# Altium footprint library AMP Footprints.PcbLib: 903 footprints (part 16 of 58)
Each footprint in its own frame and in the unit in brackets; x right, y up, seen from the top. Pads: shape width x height; smd on the part's side, far side on the other; paste and mask are expansions set on the pad; w line width, h text height; cw(c..) or ccw(c..) is an arc to the next point about the centre after c.
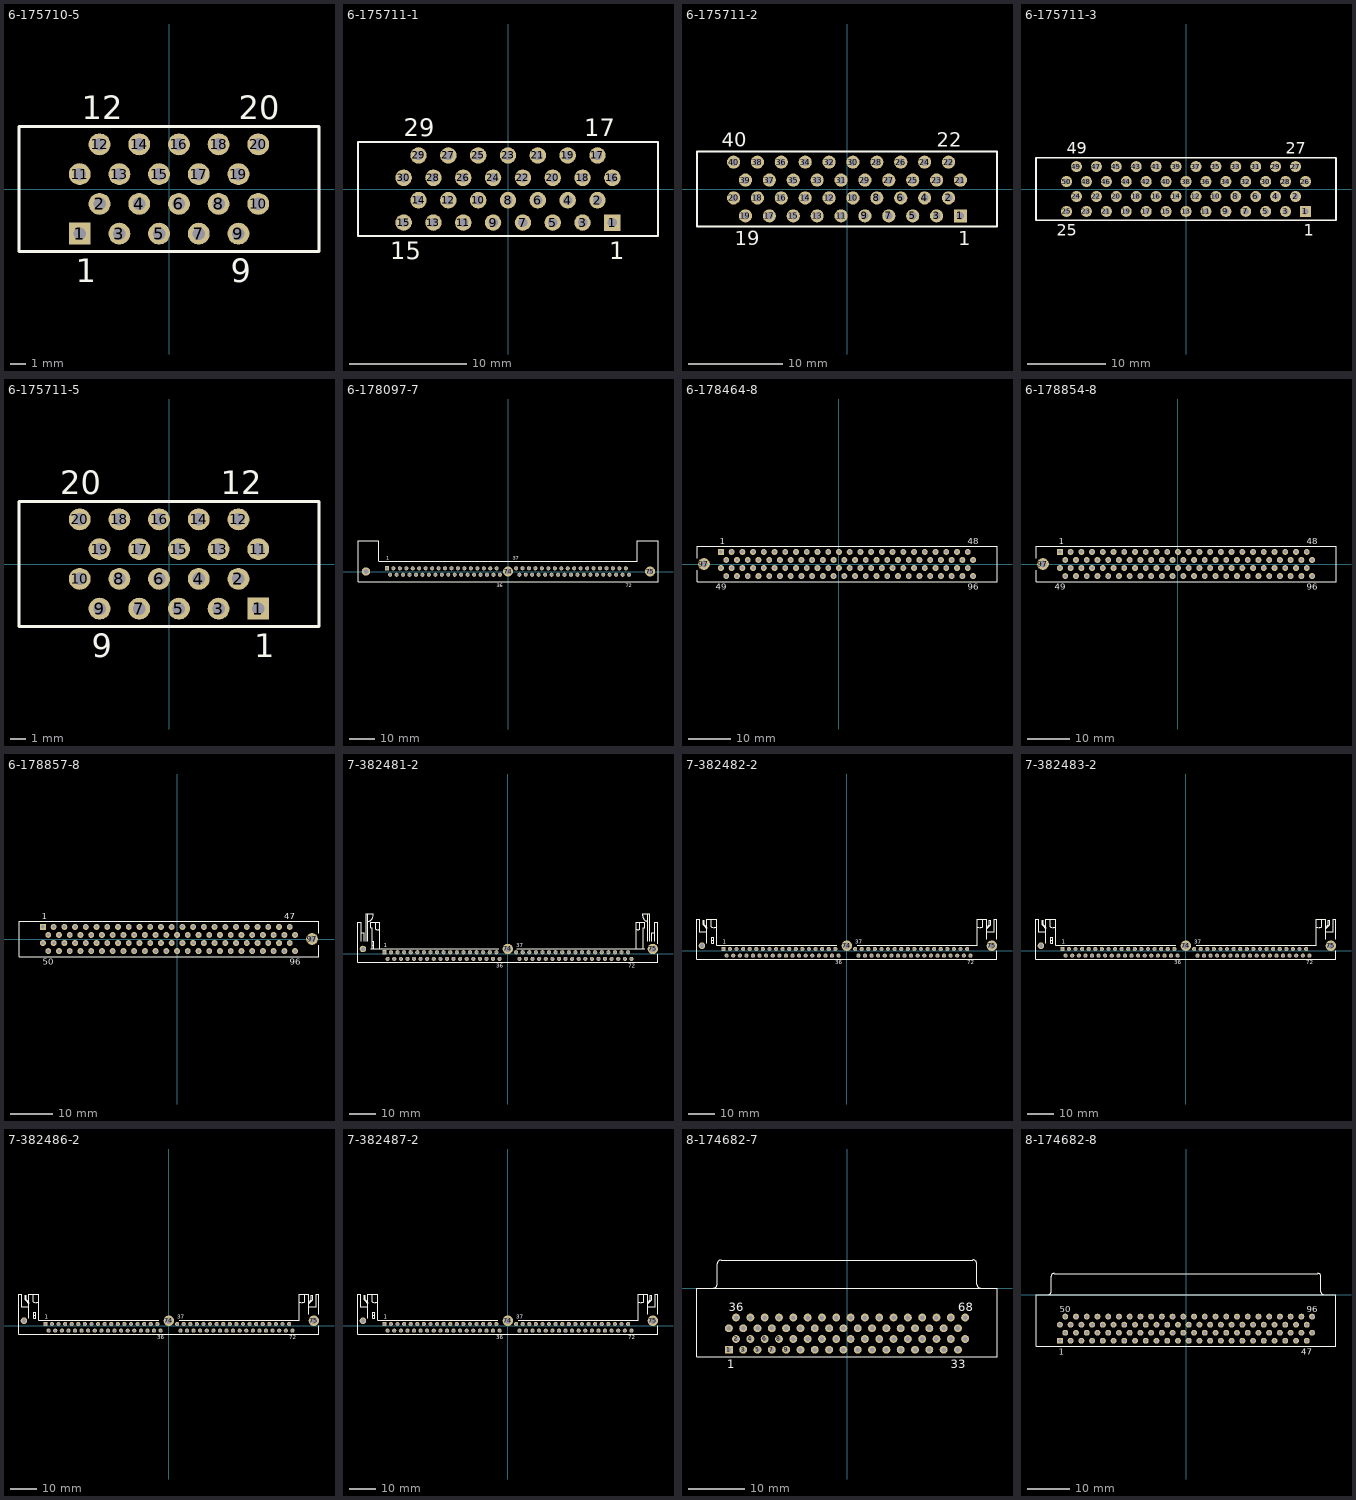
[diagram p15: the footprints below, top view; thin cyan lines are the x and y axes]

## 6-175710-5 [mm] "Connector; D Subminiature 050 Series; 20 Position; Vertical"
height 7.9
pads (20):
  rect 1.4x1.4 hole 0.8: 1(-5.715,-2.857)
  round 1.4 hole 0.8: 2(-4.445,-0.953) 3(-3.175,-2.857) 4(-1.905,-0.953) 5(-0.635,-2.857) 6(0.635,-0.953) 7(1.905,-2.857) 8(3.175,-0.953) 9(4.445,-2.857) 10(5.715,-0.953) 11(-5.715,0.953) 12(-4.445,2.857) 13(-3.175,0.953) 14(-1.905,2.857) 15(-0.635,0.953) 16(0.635,2.857) 17(1.905,0.953) 18(3.175,2.857) 19(4.445,0.953) 20(5.715,2.857)
Top Overlay:
  lines w0.2: -9.6,-4 -9.6,4 9.6,4 9.6,-4 -9.6,-4
  text "1" at -5.965,-5.975 h1.5
  text "9" at 3.945,-5.975 h1.5
  text "12" at -5.57,4.475 h1.5
  text "20" at 4.465,4.475 h1.5

## 6-175711-1 [mm] "Connector; D Subminiature 050 Series; 30 Position; Vertical"
height 9.5
pads (30):
  rect 1.4x1.4 hole 0.8: 1(8.89,-2.857)
  round 1.4 hole 0.8: 2(7.62,-0.953) 3(6.35,-2.857) 4(5.08,-0.953) 5(3.81,-2.857) 6(2.54,-0.953) 7(1.27,-2.857) 8(0,-0.953) 9(-1.27,-2.857) 10(-2.54,-0.953) 11(-3.81,-2.857) 12(-5.08,-0.953) 13(-6.35,-2.857) 14(-7.62,-0.953) 15(-8.89,-2.857) 16(8.89,0.953) 17(7.62,2.857) 18(6.35,0.953) 19(5.08,2.857) 20(3.81,0.953) 21(2.54,2.857) 22(1.27,0.953) 23(0,2.857) 24(-1.27,0.953) 25(-2.54,2.857) 26(-3.81,0.953) 27(-5.08,2.857) 28(-6.35,0.953) 29(-7.62,2.857) 30(-8.89,0.953)
Top Overlay:
  lines w0.2: -12.775,-4 -12.775,4 12.775,4 12.775,-4 -12.775,-4
  text "1" at 8.64,-5.975 h1.5
  text "15" at -10.015,-5.975 h1.5
  text "17" at 6.495,4.475 h1.5
  text "29" at -8.87,4.475 h1.5

## 6-175711-2 [mm] "Connector; D Subminiature 050 Series; 40 Position; Vertical"
height 9.5
pads (40):
  rect 1.4x1.4 hole 0.8: 1(12.065,-2.857)
  round 1.4 hole 0.8: 2(10.795,-0.953) 3(9.525,-2.857) 4(8.255,-0.953) 5(6.985,-2.857) 6(5.715,-0.953) 7(4.445,-2.857) 8(3.175,-0.953) 9(1.905,-2.857) 10(0.635,-0.953) 11(-0.635,-2.857) 12(-1.905,-0.953) 13(-3.175,-2.857) 14(-4.445,-0.953) 15(-5.715,-2.857) 16(-6.985,-0.953) 17(-8.255,-2.857) 18(-9.525,-0.953) 19(-10.795,-2.857) 20(-12.065,-0.953) 21(12.065,0.953) 22(10.795,2.857) 23(9.525,0.953) 24(8.255,2.857) 25(6.985,0.953) 26(5.715,2.857) 27(4.445,0.953) 28(3.175,2.857) 29(1.905,0.953) 30(0.635,2.857) 31(-0.635,0.953) 32(-1.905,2.857) 33(-3.175,0.953) 34(-4.445,2.857) 35(-5.715,0.953) 36(-6.985,2.857) 37(-8.255,0.953) 38(-9.525,2.857) 39(-10.795,0.953) 40(-12.065,2.857)
Top Overlay:
  lines w0.2: -15.95,-4 15.95,-4 15.95,4 -15.95,4 -15.95,-4
  text "22" at 9.545,4.475 h1.5
  text "40" at -13.315,4.475 h1.5
  text "19" at -11.92,-5.975 h1.5
  text "1" at 11.815,-5.975 h1.5

## 6-175711-3 [mm] "Connector; D Subminiature 050 Series; 50 Position; Vertical"
height 9.5
pads (50):
  rect 1.4x1.4 hole 0.8: 1(15.24,-2.857)
  round 1.4 hole 0.8: 2(13.97,-0.953) 3(12.7,-2.857) 4(11.43,-0.953) 5(10.16,-2.857) 6(8.89,-0.953) 7(7.62,-2.857) 8(6.35,-0.953) 9(5.08,-2.857) 10(3.81,-0.953) 11(2.54,-2.857) 12(1.27,-0.953) 13(0,-2.857) 14(-1.27,-0.953) 15(-2.54,-2.857) 16(-3.81,-0.953) 17(-5.08,-2.857) 18(-6.35,-0.953) 19(-7.62,-2.857) 20(-8.89,-0.953) 21(-10.16,-2.857) 22(-11.43,-0.953) 23(-12.7,-2.857) 24(-13.97,-0.953) 25(-15.24,-2.857) 26(15.24,0.953) 27(13.97,2.857) 28(12.7,0.953) 29(11.43,2.857) 30(10.16,0.953) 31(8.89,2.857) 32(7.62,0.953) 33(6.35,2.857) 34(5.08,0.953) 35(3.81,2.857) 36(2.54,0.953) 37(1.27,2.857) 38(0,0.953) 39(-1.27,2.857) 40(-2.54,0.953) 41(-3.81,2.857) 42(-5.08,0.953) 43(-6.35,2.857) 44(-7.62,0.953) 45(-8.89,2.857) 46(-10.16,0.953) 47(-11.43,2.857) 48(-12.7,0.953) 49(-13.97,2.857) 50(-15.24,0.953)
Top Overlay:
  lines w0.2: -19.13,-4 19.13,-4 19.13,4 -19.13,4 -19.13,-4
  text "27" at 12.72,4.475 h1.5
  text "49" at -15.22,4.475 h1.5
  text "25" at -16.49,-5.975 h1.5
  text "1" at 14.99,-5.975 h1.5

## 6-175711-5 [mm] "Connector; D Subminiature 050 Series; 20 Position; Vertical"
height 9.5
pads (20):
  rect 1.4x1.4 hole 0.8: 1(5.715,-2.857)
  round 1.4 hole 0.8: 2(4.445,-0.953) 3(3.175,-2.857) 4(1.905,-0.953) 5(0.635,-2.857) 6(-0.635,-0.953) 7(-1.905,-2.857) 8(-3.175,-0.953) 9(-4.445,-2.857) 10(-5.715,-0.953) 11(5.715,0.953) 12(4.445,2.857) 13(3.175,0.953) 14(1.905,2.857) 15(0.635,0.953) 16(-0.635,2.857) 17(-1.905,0.953) 18(-3.175,2.857) 19(-4.445,0.953) 20(-5.715,2.857)
Top Overlay:
  lines w0.2: -9.6,-4 -9.6,4 9.6,4 9.6,-4 -9.6,-4
  text "9" at -4.945,-5.975 h1.5
  text "1" at 5.465,-5.975 h1.5
  text "12" at 3.32,4.475 h1.5
  text "20" at -6.965,4.475 h1.5

## 6-178097-7 [mm] "Connector; SIMM; 72 Position; Orientation 30°"
height 9.2
pads (75):
  rect 1.6x1.6 hole 1: 1(-47.625,1.27)
  round 1.6 hole 1: 2(-46.355,-1.27) 3(-45.085,1.27) 4(-43.815,-1.27) 5(-42.545,1.27) 6(-41.275,-1.27) 7(-40.005,1.27) 8(-38.735,-1.27) 9(-37.465,1.27) 10(-36.195,-1.27) 11(-34.925,1.27) 12(-33.655,-1.27) 13(-32.385,1.27) 14(-31.115,-1.27) 15(-29.845,1.27) 16(-28.575,-1.27) 17(-27.305,1.27) 18(-26.035,-1.27) 19(-24.765,1.27) 20(-23.495,-1.27) 21(-22.225,1.27) 22(-20.955,-1.27) 23(-19.685,1.27) 24(-18.415,-1.27) 25(-17.145,1.27) 26(-15.875,-1.27) 27(-14.605,1.27) 28(-13.335,-1.27) 29(-12.065,1.27) 30(-10.795,-1.27) 31(-9.525,1.27) 32(-8.255,-1.27) 33(-6.985,1.27) 34(-5.715,-1.27) 35(-4.445,1.27) 36(-3.175,-1.27) 37(3.175,1.27) 38(4.445,-1.27) 39(5.715,1.27) 40(6.985,-1.27) 41(8.255,1.27) 42(9.525,-1.27) 43(10.795,1.27) 44(12.065,-1.27) 45(13.335,1.27) 46(14.605,-1.27) 47(15.875,1.27) 48(17.145,-1.27) 49(18.415,1.27) 50(19.685,-1.27) 51(20.955,1.27) 52(22.225,-1.27) 53(23.495,1.27) 54(24.765,-1.27) 55(26.035,1.27) 56(27.305,-1.27) 57(28.575,1.27) 58(29.845,-1.27) 59(31.115,1.27) 60(32.385,-1.27) 61(33.655,1.27) 62(34.925,-1.27) 63(36.195,1.27) 64(37.465,-1.27) 65(38.735,1.27) 66(40.005,-1.27) 67(41.275,1.27) 68(42.545,-1.27) 69(43.815,1.27) 70(45.085,-1.27) 71(46.355,1.27) 72(47.625,-1.27)
  round 3.3 hole 2: 73(-55.88,0)
  round 4 hole 2.4: 74(0,0) 75(55.88,0)
Top Overlay:
  lines w0.2: -59,12 -59,-4.12 59,-4.12 59,12 ; -50.8,4.12 50.8,4.12
  lines w0.254: -59,12 -50.8,12 -50.8,4.22 ; 50.8,4.22 50.8,12 59,12
  text "72" at 46.375,-6.095 h1.5
  text "37" at 1.925,4.595 h1.5
  text "36" at -4.425,-6.095 h1.5
  text "1" at -47.875,4.595 h1.5

## 6-178464-8 [mm] "Connector; D Subminiature 050 Series; 96 Position; Vertical"
height 9.5
pads (97):
  rect 1.4x1.4 hole 0.8: 1(-27.845,2.857)
  round 1.4 hole 0.8: 2(-26.575,0.953) 3(-25.305,2.857) 4(-24.035,0.953) 5(-22.765,2.857) 6(-21.495,0.953) 7(-20.225,2.857) 8(-18.955,0.953) 9(-17.685,2.857) 10(-16.415,0.953) 11(-15.145,2.857) 12(-13.875,0.953) 13(-12.605,2.857) 14(-11.335,0.953) 15(-10.065,2.857) 16(-8.795,0.953) 17(-7.525,2.857) 18(-6.255,0.953) 19(-4.985,2.857) 20(-3.715,0.953) 21(-2.445,2.857) 22(-1.175,0.953) 23(0.095,2.857) 24(1.365,0.953) 25(2.635,2.857) 26(3.905,0.953) 27(5.175,2.857) 28(6.445,0.953) 29(7.715,2.857) 30(8.985,0.953) 31(10.255,2.857) 32(11.525,0.953) 33(12.795,2.857) 34(14.065,0.953) 35(15.335,2.857) 36(16.605,0.953) 37(17.875,2.857) 38(19.145,0.953) 39(20.415,2.857) 40(21.685,0.953) 41(22.955,2.857) 42(24.225,0.953) 43(25.495,2.857) 44(26.765,0.953) 45(28.035,2.857) 46(29.305,0.953) 47(30.575,2.857) 48(31.845,0.953) 49(-27.845,-0.953) 50(-26.575,-2.857) 51(-25.305,-0.953) 52(-24.035,-2.857) 53(-22.765,-0.953) 54(-21.495,-2.857) 55(-20.225,-0.953) 56(-18.955,-2.857) 57(-17.685,-0.953) 58(-16.415,-2.857) 59(-15.145,-0.953) 60(-13.875,-2.857) 61(-12.605,-0.953) 62(-11.335,-2.857) 63(-10.065,-0.953) 64(-8.795,-2.857) 65(-7.525,-0.953) 66(-6.255,-2.857) 67(-4.985,-0.953) 68(-3.715,-2.857) 69(-2.445,-0.953) 70(-1.175,-2.857) 71(0.095,-0.953) 72(1.365,-2.857) 73(2.635,-0.953) 74(3.905,-2.857) 75(5.175,-0.953) 76(6.445,-2.857) 77(7.715,-0.953) 78(8.985,-2.857) 79(10.255,-0.953) 80(11.525,-2.857) 81(12.795,-0.953) 82(14.065,-2.857) 83(15.335,-0.953) 84(16.605,-2.857) 85(17.875,-0.953) 86(19.145,-2.857) 87(20.415,-0.953) 88(21.685,-2.857) 89(22.955,-0.953) 90(24.225,-2.857) 91(25.495,-0.953) 92(26.765,-2.857) 93(28.035,-0.953) 94(29.305,-2.857) 95(30.575,-0.953) 96(31.845,-2.857)
  round 2.8 hole 1.7: 97(-31.845,0)
Top Overlay:
  lines w0.2: -33.5,-1.45 -33.5,-4.157 37.5,-4.157 37.5,4.157 -33.5,4.157 -33.5,1.411
  text "49" at -29.095,-6.132 h1.5
  text "1" at -28.095,4.633 h1.5
  text "48" at 30.595,4.633 h1.5
  text "96" at 30.595,-6.132 h1.5

## 6-178854-8 [mm] "Connector; D Subminiature 050 Series; 96 Position; Vertical"
height 9.5
pads (97):
  rect 1.4x1.4 hole 0.8: 1(-27.845,2.857)
  round 1.4 hole 0.8: 2(-26.575,0.953) 3(-25.305,2.857) 4(-24.035,0.953) 5(-22.765,2.857) 6(-21.495,0.953) 7(-20.225,2.857) 8(-18.955,0.953) 9(-17.685,2.857) 10(-16.415,0.953) 11(-15.145,2.857) 12(-13.875,0.953) 13(-12.605,2.857) 14(-11.335,0.953) 15(-10.065,2.857) 16(-8.795,0.953) 17(-7.525,2.857) 18(-6.255,0.953) 19(-4.985,2.857) 20(-3.715,0.953) 21(-2.445,2.857) 22(-1.175,0.953) 23(0.095,2.857) 24(1.365,0.953) 25(2.635,2.857) 26(3.905,0.953) 27(5.175,2.857) 28(6.445,0.953) 29(7.715,2.857) 30(8.985,0.953) 31(10.255,2.857) 32(11.525,0.953) 33(12.795,2.857) 34(14.065,0.953) 35(15.335,2.857) 36(16.605,0.953) 37(17.875,2.857) 38(19.145,0.953) 39(20.415,2.857) 40(21.685,0.953) 41(22.955,2.857) 42(24.225,0.953) 43(25.495,2.857) 44(26.765,0.953) 45(28.035,2.857) 46(29.305,0.953) 47(30.575,2.857) 48(31.845,0.953) 49(-27.845,-0.953) 50(-26.575,-2.857) 51(-25.305,-0.953) 52(-24.035,-2.857) 53(-22.765,-0.953) 54(-21.495,-2.857) 55(-20.225,-0.953) 56(-18.955,-2.857) 57(-17.685,-0.953) 58(-16.415,-2.857) 59(-15.145,-0.953) 60(-13.875,-2.857) 61(-12.605,-0.953) 62(-11.335,-2.857) 63(-10.065,-0.953) 64(-8.795,-2.857) 65(-7.525,-0.953) 66(-6.255,-2.857) 67(-4.985,-0.953) 68(-3.715,-2.857) 69(-2.445,-0.953) 70(-1.175,-2.857) 71(0.095,-0.953) 72(1.365,-2.857) 73(2.635,-0.953) 74(3.905,-2.857) 75(5.175,-0.953) 76(6.445,-2.857) 77(7.715,-0.953) 78(8.985,-2.857) 79(10.255,-0.953) 80(11.525,-2.857) 81(12.795,-0.953) 82(14.065,-2.857) 83(15.335,-0.953) 84(16.605,-2.857) 85(17.875,-0.953) 86(19.145,-2.857) 87(20.415,-0.953) 88(21.685,-2.857) 89(22.955,-0.953) 90(24.225,-2.857) 91(25.495,-0.953) 92(26.765,-2.857) 93(28.035,-0.953) 94(29.305,-2.857) 95(30.575,-0.953) 96(31.845,-2.857)
  round 2.8 hole 1.7: 97(-31.845,0)
Top Overlay:
  lines w0.2: -33.5,-1.45 -33.5,-4.157 37.5,-4.157 37.5,4.157 -33.5,4.157 -33.5,1.411
  text "49" at -29.095,-6.132 h1.5
  text "1" at -28.095,4.633 h1.5
  text "48" at 30.595,4.633 h1.5
  text "96" at 30.595,-6.132 h1.5

## 6-178857-8 [mm] "Connector; D Subminiature 050 Series; 96 Position; Vertical"
height 9.5
pads (97):
  rect 1.4x1.4 hole 0.8: 1(-31.845,2.857)
  round 1.4 hole 0.8: 2(-30.575,0.953) 3(-29.305,2.857) 4(-28.035,0.953) 5(-26.765,2.857) 6(-25.495,0.953) 7(-24.225,2.857) 8(-22.955,0.953) 9(-21.685,2.857) 10(-20.415,0.953) 11(-19.145,2.857) 12(-17.875,0.953) 13(-16.605,2.857) 14(-15.335,0.953) 15(-14.065,2.857) 16(-12.795,0.953) 17(-11.525,2.857) 18(-10.255,0.953) 19(-8.985,2.857) 20(-7.715,0.953) 21(-6.445,2.857) 22(-5.175,0.953) 23(-3.905,2.857) 24(-2.635,0.953) 25(-1.365,2.857) 26(-0.095,0.953) 27(1.175,2.857) 28(2.445,0.953) 29(3.715,2.857) 30(4.985,0.953) 31(6.255,2.857) 32(7.525,0.953) 33(8.795,2.857) 34(10.065,0.953) 35(11.335,2.857) 36(12.605,0.953) 37(13.875,2.857) 38(15.145,0.953) 39(16.415,2.857) 40(17.685,0.953) 41(18.955,2.857) 42(20.225,0.953) 43(21.495,2.857) 44(22.765,0.953) 45(24.035,2.857) 46(25.305,0.953) 47(26.575,2.857) 48(27.845,0.953) 49(-31.845,-0.953) 50(-30.575,-2.857) 51(-29.305,-0.953) 52(-28.035,-2.857) 53(-26.765,-0.953) 54(-25.495,-2.857) 55(-24.225,-0.953) 56(-22.955,-2.857) 57(-21.685,-0.953) 58(-20.415,-2.857) 59(-19.145,-0.953) 60(-17.875,-2.857) 61(-16.605,-0.953) 62(-15.335,-2.857) 63(-14.065,-0.953) 64(-12.795,-2.857) 65(-11.525,-0.953) 66(-10.255,-2.857) 67(-8.985,-0.953) 68(-7.715,-2.857) 69(-6.445,-0.953) 70(-5.175,-2.857) 71(-3.905,-0.953) 72(-2.635,-2.857) 73(-1.365,-0.953) 74(-0.095,-2.857) 75(1.175,-0.953) 76(2.445,-2.857) 77(3.715,-0.953) 78(4.985,-2.857) 79(6.255,-0.953) 80(7.525,-2.857) 81(8.795,-0.953) 82(10.065,-2.857) 83(11.335,-0.953) 84(12.605,-2.857) 85(13.875,-0.953) 86(15.145,-2.857) 87(16.415,-0.953) 88(17.685,-2.857) 89(18.955,-0.953) 90(20.225,-2.857) 91(21.495,-0.953) 92(22.765,-2.857) 93(24.035,-0.953) 94(25.305,-2.857) 95(26.575,-0.953) 96(27.845,-2.857)
  round 2.8 hole 1.7: 97(31.845,0)
Top Overlay:
  lines w0.2: 33.5,-1.45 33.5,-4.157 -37.5,-4.157 -37.5,4.157 33.5,4.157 33.5,1.411
  text "47" at 25.325,4.633 h1.5
  text "50" at -31.825,-6.132 h1.5
  text "96" at 26.595,-6.132 h1.5
  text "1" at -32.095,4.633 h1.5

## 7-382481-2 [mm] "Connector; SIMM II; 72 Position; Right Angle"
height 8.39
pads (75):
  rect 1.6x1.6 hole 0.99: 1(-47.62,0.635)
  round 1.6 hole 0.99: 2(-46.35,-1.905) 3(-45.08,0.635) 4(-43.81,-1.905) 5(-42.54,0.635) 6(-41.27,-1.905) 7(-40,0.635) 8(-38.73,-1.905) 9(-37.46,0.635) 10(-36.19,-1.905) 11(-34.92,0.635) 12(-33.65,-1.905) 13(-32.38,0.635) 14(-31.11,-1.905) 15(-29.84,0.635) 16(-28.57,-1.905) 17(-27.3,0.635) 18(-26.03,-1.905) 19(-24.76,0.635) 20(-23.49,-1.905) 21(-22.22,0.635) 22(-20.95,-1.905) 23(-19.68,0.635) 24(-18.41,-1.905) 25(-17.14,0.635) 26(-15.87,-1.905) 27(-14.6,0.635) 28(-13.33,-1.905) 29(-12.06,0.635) 30(-10.79,-1.905) 31(-9.52,0.635) 32(-8.25,-1.905) 33(-6.98,0.635) 34(-5.71,-1.905) 35(-4.44,0.635) 36(-3.17,-1.905) 37(3.18,0.635) 38(4.45,-1.905) 39(5.72,0.635) 40(6.99,-1.905) 41(8.26,0.635) 42(9.53,-1.905) 43(10.8,0.635) 44(12.07,-1.905) 45(13.34,0.635) 46(14.61,-1.905) 47(15.88,0.635) 48(17.15,-1.905) 49(18.42,0.635) 50(19.69,-1.905) 51(20.96,0.635) 52(22.23,-1.905) 53(23.5,0.635) 54(24.77,-1.905) 55(26.04,0.635) 56(27.31,-1.905) 57(28.58,0.635) 58(29.85,-1.905) 59(31.12,0.635) 60(32.39,-1.905) 61(33.66,0.635) 62(34.93,-1.905) 63(36.2,0.635) 64(37.47,-1.905) 65(38.74,0.635) 66(40.01,-1.905) 67(41.28,0.635) 68(42.55,-1.905) 69(43.82,0.635) 70(45.09,-1.905) 71(46.36,0.635) 72(47.63,-1.905)
  round 2.5 hole 1.58: 73(-55.88,1.905)
  round 4 hole 2.44: 74(0,1.905) 75(55.88,1.905)
Top Overlay:
  lines w0.2: -56.585,4.815 -56.585,12.115 -57.785,12.115 -57.785,-3.305 57.785,-3.305 57.785,-0.215 ; -56.585,8.115 -55.385,8.115 -55.385,4.815 ; -54.685,4.815 -54.685,15.475 -51.985,15.475 -51.985,14.675 ; -53.985,4.815 -53.985,15.475 ; -53.985,12.575 ccw(c-54.085,14.675) -51.983,14.675 ; -52.785,2.035 -3.5,2.035 ; -52.285,2.035 -52.285,10.175 -52.785,10.175 -52.785,12.115 -49.485,12.115 -49.485,2.035 ; -52.285,3.415 -51.785,3.415 ; -52.285,4.815 -51.785,4.815 -51.785,2.035 ; -50.885,12.115 -50.885,9.515 ccw(c-50.185,10.915) -49.485,9.515 ; 3.5,2.035 52.785,2.035 ; 49.485,2.035 49.485,12.115 52.785,12.115 52.785,10.175 52.285,10.175 52.285,2.035 ; 49.485,9.515 ccw(c50.185,10.915) 50.885,9.515 50.885,12.115 ; 51.983,14.675 ccw(c54.085,14.675) 53.985,12.575 ; 51.985,14.675 51.985,15.475 54.685,15.475 54.685,4.815 ; 53.985,4.815 53.985,15.475 ; 55.385,4.815 55.385,8.115 56.585,8.115 ; 56.585,4.815 56.585,12.115 57.785,12.115 57.785,4
  text "1" at -47.87,2.51 h1.5
  text "37" at 3.18,2.51 h1.5
  text "72" at 46.38,-5.28 h1.5
  text "36" at -4.42,-5.28 h1.5

## 7-382482-2 [mm] "Connector; SIMM II; 72 Position; Right Angle"
height 9.27
pads (75):
  rect 1.6x1.6 hole 0.99: 1(-47.625,0.635)
  round 1.6 hole 0.99: 2(-46.355,-1.905) 3(-45.085,0.635) 4(-43.815,-1.905) 5(-42.545,0.635) 6(-41.275,-1.905) 7(-40.005,0.635) 8(-38.735,-1.905) 9(-37.465,0.635) 10(-36.195,-1.905) 11(-34.925,0.635) 12(-33.655,-1.905) 13(-32.385,0.635) 14(-31.115,-1.905) 15(-29.845,0.635) 16(-28.575,-1.905) 17(-27.305,0.635) 18(-26.035,-1.905) 19(-24.765,0.635) 20(-23.495,-1.905) 21(-22.225,0.635) 22(-20.955,-1.905) 23(-19.685,0.635) 24(-18.415,-1.905) 25(-17.145,0.635) 26(-15.875,-1.905) 27(-14.605,0.635) 28(-13.335,-1.905) 29(-12.065,0.635) 30(-10.795,-1.905) 31(-9.525,0.635) 32(-8.255,-1.905) 33(-6.985,0.635) 34(-5.715,-1.905) 35(-4.445,0.635) 36(-3.175,-1.905) 37(3.175,0.635) 38(4.445,-1.905) 39(5.715,0.635) 40(6.985,-1.905) 41(8.255,0.635) 42(9.525,-1.905) 43(10.795,0.635) 44(12.065,-1.905) 45(13.335,0.635) 46(14.605,-1.905) 47(15.875,0.635) 48(17.145,-1.905) 49(18.415,0.635) 50(19.685,-1.905) 51(20.955,0.635) 52(22.225,-1.905) 53(23.495,0.635) 54(24.765,-1.905) 55(26.035,0.635) 56(27.305,-1.905) 57(28.575,0.635) 58(29.845,-1.905) 59(31.115,0.635) 60(32.385,-1.905) 61(33.655,0.635) 62(34.925,-1.905) 63(36.195,0.635) 64(37.465,-1.905) 65(38.735,0.635) 66(40.005,-1.905) 67(41.275,0.635) 68(42.545,-1.905) 69(43.815,0.635) 70(45.085,-1.905) 71(46.355,0.635) 72(47.625,-1.905)
  round 2.5 hole 1.58: 73(-55.88,1.905)
  round 4 hole 2.44: 74(0,1.905) 75(55.88,1.905)
Top Overlay:
  lines w0.2: -56.785,7.195 -56.785,12.115 -57.785,12.115 -57.785,-3.305 57.785,-3.305 57.785,-0.01 ; -56.765,7.215 -53.985,7.215 ; -53.985,2.92 -53.985,7.215 ; -53.985,8.515 -55.385,9.915 -55.385,11.815 -54.985,11.815 -54.985,9.915 -53.985,8.915 ; -52.385,12.115 -52.385,9.215 ccw(c-51.185,11.615) -50.153,9.138 ; -52.1,4.105 -51.4,4.105 ; -4,2.115 -50.185,2.115 -50.185,12.115 -53.985,12.115 -53.985,7.215 ; 4,2.115 50.185,2.115 50.185,12.115 53.985,12.115 53.985,7.215 ; 50.153,9.138 ccw(c51.185,11.615) 52.385,9.215 52.385,12.115 ; 53.985,4.405 53.985,7.215 ; 53.985,8.515 55.385,9.915 55.385,11.815 54.985,11.815 54.985,9.915 53.985,8.915 ; 56.765,7.215 53.985,7.215 ; 56.785,7.195 56.785,12.115 57.785,12.115 57.785,4.405 ; -52.1,2.905 -52.1,5.205 -51.4,5.205 -51.4,2.905 -52.1,2.905
  text "37" at 3.175,2.59 h1.5
  text "1" at -47.875,2.59 h1.5
  text "36" at -4.425,-5.28 h1.5
  text "72" at 46.375,-5.28 h1.5

## 7-382483-2 [mm] "Connector; SIMM II; 72 Position; Right Angle"
height 9.27
pads (75):
  rect 1.6x1.6 hole 0.99: 1(-47.625,0.635)
  round 1.6 hole 0.99: 2(-46.355,-1.905) 3(-45.085,0.635) 4(-43.815,-1.905) 5(-42.545,0.635) 6(-41.275,-1.905) 7(-40.005,0.635) 8(-38.735,-1.905) 9(-37.465,0.635) 10(-36.195,-1.905) 11(-34.925,0.635) 12(-33.655,-1.905) 13(-32.385,0.635) 14(-31.115,-1.905) 15(-29.845,0.635) 16(-28.575,-1.905) 17(-27.305,0.635) 18(-26.035,-1.905) 19(-24.765,0.635) 20(-23.495,-1.905) 21(-22.225,0.635) 22(-20.955,-1.905) 23(-19.685,0.635) 24(-18.415,-1.905) 25(-17.145,0.635) 26(-15.875,-1.905) 27(-14.605,0.635) 28(-13.335,-1.905) 29(-12.065,0.635) 30(-10.795,-1.905) 31(-9.525,0.635) 32(-8.255,-1.905) 33(-6.985,0.635) 34(-5.715,-1.905) 35(-4.445,0.635) 36(-3.175,-1.905) 37(3.175,0.635) 38(4.445,-1.905) 39(5.715,0.635) 40(6.985,-1.905) 41(8.255,0.635) 42(9.525,-1.905) 43(10.795,0.635) 44(12.065,-1.905) 45(13.335,0.635) 46(14.605,-1.905) 47(15.875,0.635) 48(17.145,-1.905) 49(18.415,0.635) 50(19.685,-1.905) 51(20.955,0.635) 52(22.225,-1.905) 53(23.495,0.635) 54(24.765,-1.905) 55(26.035,0.635) 56(27.305,-1.905) 57(28.575,0.635) 58(29.845,-1.905) 59(31.115,0.635) 60(32.385,-1.905) 61(33.655,0.635) 62(34.925,-1.905) 63(36.195,0.635) 64(37.465,-1.905) 65(38.735,0.635) 66(40.005,-1.905) 67(41.275,0.635) 68(42.545,-1.905) 69(43.815,0.635) 70(45.085,-1.905) 71(46.355,0.635) 72(47.625,-1.905)
  round 2.5 hole 1.58: 73(-55.88,1.905)
  round 4 hole 2.44: 74(0,1.905) 75(55.88,1.905)
Top Overlay:
  lines w0.2: -56.785,7.195 -56.785,12.115 -57.785,12.115 -57.785,-3.305 57.785,-3.305 57.785,-0.01 ; -56.765,7.215 -53.985,7.215 ; -53.985,2.92 -53.985,7.215 ; -53.985,8.515 -55.385,9.915 -55.385,11.815 -54.985,11.815 -54.985,9.915 -53.985,8.915 ; -52.385,12.115 -52.385,9.215 ccw(c-51.185,11.615) -50.153,9.138 ; -52.1,4.105 -51.4,4.105 ; -4,2.115 -50.185,2.115 -50.185,12.115 -53.985,12.115 -53.985,7.215 ; 4,2.115 50.185,2.115 50.185,12.115 53.985,12.115 53.985,7.215 ; 50.153,9.138 ccw(c51.185,11.615) 52.385,9.215 52.385,12.115 ; 53.985,4.405 53.985,7.215 ; 53.985,8.515 55.385,9.915 55.385,11.815 54.985,11.815 54.985,9.915 53.985,8.915 ; 56.765,7.215 53.985,7.215 ; 56.785,7.195 56.785,12.115 57.785,12.115 57.785,4.405 ; -52.1,2.905 -52.1,5.205 -51.4,5.205 -51.4,2.905 -52.1,2.905
  text "37" at 3.175,2.59 h1.5
  text "1" at -47.875,2.59 h1.5
  text "36" at -4.425,-5.28 h1.5
  text "72" at 46.375,-5.28 h1.5

## 7-382486-2 [mm] "Connector; SIMM II; 72 Position; Right Angle"
height 11.56
pads (75):
  rect 1.6x1.6 hole 0.99: 1(-47.625,0.635)
  round 1.6 hole 0.99: 2(-46.355,-1.905) 3(-45.085,0.635) 4(-43.815,-1.905) 5(-42.545,0.635) 6(-41.275,-1.905) 7(-40.005,0.635) 8(-38.735,-1.905) 9(-37.465,0.635) 10(-36.195,-1.905) 11(-34.925,0.635) 12(-33.655,-1.905) 13(-32.385,0.635) 14(-31.115,-1.905) 15(-29.845,0.635) 16(-28.575,-1.905) 17(-27.305,0.635) 18(-26.035,-1.905) 19(-24.765,0.635) 20(-23.495,-1.905) 21(-22.225,0.635) 22(-20.955,-1.905) 23(-19.685,0.635) 24(-18.415,-1.905) 25(-17.145,0.635) 26(-15.875,-1.905) 27(-14.605,0.635) 28(-13.335,-1.905) 29(-12.065,0.635) 30(-10.795,-1.905) 31(-9.525,0.635) 32(-8.255,-1.905) 33(-6.985,0.635) 34(-5.715,-1.905) 35(-4.445,0.635) 36(-3.175,-1.905) 37(3.175,0.635) 38(4.445,-1.905) 39(5.715,0.635) 40(6.985,-1.905) 41(8.255,0.635) 42(9.525,-1.905) 43(10.795,0.635) 44(12.065,-1.905) 45(13.335,0.635) 46(14.605,-1.905) 47(15.875,0.635) 48(17.145,-1.905) 49(18.415,0.635) 50(19.685,-1.905) 51(20.955,0.635) 52(22.225,-1.905) 53(23.495,0.635) 54(24.765,-1.905) 55(26.035,0.635) 56(27.305,-1.905) 57(28.575,0.635) 58(29.845,-1.905) 59(31.115,0.635) 60(32.385,-1.905) 61(33.655,0.635) 62(34.925,-1.905) 63(36.195,0.635) 64(37.465,-1.905) 65(38.735,0.635) 66(40.005,-1.905) 67(41.275,0.635) 68(42.545,-1.905) 69(43.815,0.635) 70(45.085,-1.905) 71(46.355,0.635) 72(47.625,-1.905)
  round 2.5 hole 1.58: 73(-55.88,1.905)
  round 4 hole 2.44: 74(0,1.905) 75(55.88,1.905)
Top Overlay:
  lines w0.2: -56.785,7.195 -56.785,12.115 -57.785,12.115 -57.785,-3.305 57.785,-3.305 57.785,-0.01 ; -56.765,7.215 -53.985,7.215 ; -53.985,2.92 -53.985,7.215 ; -53.985,8.515 -55.385,9.915 -55.385,11.815 -54.985,11.815 -54.985,9.915 -53.985,8.915 ; -52.385,12.115 -52.385,9.215 ccw(c-51.185,11.615) -50.153,9.138 ; -52.1,4.105 -51.4,4.105 ; -4,2.115 -50.185,2.115 -50.185,12.115 -53.985,12.115 -53.985,7.215 ; 4,2.115 50.185,2.115 50.185,12.115 53.985,12.115 53.985,7.215 ; 50.153,9.138 ccw(c51.185,11.615) 52.385,9.215 52.385,12.115 ; 53.985,4.405 53.985,7.215 ; 53.985,8.515 55.385,9.915 55.385,11.815 54.985,11.815 54.985,9.915 53.985,8.915 ; 56.765,7.215 53.985,7.215 ; 56.785,7.195 56.785,12.115 57.785,12.115 57.785,4.405 ; -52.1,2.905 -52.1,5.205 -51.4,5.205 -51.4,2.905 -52.1,2.905
  text "37" at 3.175,2.59 h1.5
  text "1" at -47.875,2.59 h1.5
  text "36" at -4.425,-5.28 h1.5
  text "72" at 46.375,-5.28 h1.5

## 7-382487-2 [mm] "Connector; SIMM II; 72 Position; Right Angle"
height 11.56
pads (75):
  rect 1.6x1.6 hole 0.99: 1(-47.625,0.635)
  round 1.6 hole 0.99: 2(-46.355,-1.905) 3(-45.085,0.635) 4(-43.815,-1.905) 5(-42.545,0.635) 6(-41.275,-1.905) 7(-40.005,0.635) 8(-38.735,-1.905) 9(-37.465,0.635) 10(-36.195,-1.905) 11(-34.925,0.635) 12(-33.655,-1.905) 13(-32.385,0.635) 14(-31.115,-1.905) 15(-29.845,0.635) 16(-28.575,-1.905) 17(-27.305,0.635) 18(-26.035,-1.905) 19(-24.765,0.635) 20(-23.495,-1.905) 21(-22.225,0.635) 22(-20.955,-1.905) 23(-19.685,0.635) 24(-18.415,-1.905) 25(-17.145,0.635) 26(-15.875,-1.905) 27(-14.605,0.635) 28(-13.335,-1.905) 29(-12.065,0.635) 30(-10.795,-1.905) 31(-9.525,0.635) 32(-8.255,-1.905) 33(-6.985,0.635) 34(-5.715,-1.905) 35(-4.445,0.635) 36(-3.175,-1.905) 37(3.175,0.635) 38(4.445,-1.905) 39(5.715,0.635) 40(6.985,-1.905) 41(8.255,0.635) 42(9.525,-1.905) 43(10.795,0.635) 44(12.065,-1.905) 45(13.335,0.635) 46(14.605,-1.905) 47(15.875,0.635) 48(17.145,-1.905) 49(18.415,0.635) 50(19.685,-1.905) 51(20.955,0.635) 52(22.225,-1.905) 53(23.495,0.635) 54(24.765,-1.905) 55(26.035,0.635) 56(27.305,-1.905) 57(28.575,0.635) 58(29.845,-1.905) 59(31.115,0.635) 60(32.385,-1.905) 61(33.655,0.635) 62(34.925,-1.905) 63(36.195,0.635) 64(37.465,-1.905) 65(38.735,0.635) 66(40.005,-1.905) 67(41.275,0.635) 68(42.545,-1.905) 69(43.815,0.635) 70(45.085,-1.905) 71(46.355,0.635) 72(47.625,-1.905)
  round 2.5 hole 1.58: 73(-55.88,1.905)
  round 4 hole 2.44: 74(0,1.905) 75(55.88,1.905)
Top Overlay:
  lines w0.2: -56.785,7.195 -56.785,12.115 -57.785,12.115 -57.785,-3.305 57.785,-3.305 57.785,-0.01 ; -56.765,7.215 -53.985,7.215 ; -53.985,2.92 -53.985,7.215 ; -53.985,8.515 -55.385,9.915 -55.385,11.815 -54.985,11.815 -54.985,9.915 -53.985,8.915 ; -52.385,12.115 -52.385,9.215 ccw(c-51.185,11.615) -50.153,9.138 ; -52.1,4.105 -51.4,4.105 ; -4,2.115 -50.185,2.115 -50.185,12.115 -53.985,12.115 -53.985,7.215 ; 4,2.115 50.185,2.115 50.185,12.115 53.985,12.115 53.985,7.215 ; 50.153,9.138 ccw(c51.185,11.615) 52.385,9.215 52.385,12.115 ; 53.985,4.405 53.985,7.215 ; 53.985,8.515 55.385,9.915 55.385,11.815 54.985,11.815 54.985,9.915 53.985,8.915 ; 56.765,7.215 53.985,7.215 ; 56.785,7.195 56.785,12.115 57.785,12.115 57.785,4.405 ; -52.1,2.905 -52.1,5.205 -51.4,5.205 -51.4,2.905 -52.1,2.905
  text "37" at 3.175,2.59 h1.5
  text "1" at -47.875,2.59 h1.5
  text "36" at -4.425,-5.28 h1.5
  text "72" at 46.375,-5.28 h1.5

## 8-174682-7 [mm] "Connector; D Subminiature 050 Series; 68 Position; Right Angle"
height 7.5
pads (68):
  rect 1.4x1.4 hole 0.8: 1(-20.955,-10.915)
  round 1.4 hole 0.8: 2(-19.685,-9.01) 3(-18.415,-10.915) 4(-17.145,-9.01) 5(-15.875,-10.915) 6(-14.605,-9.01) 7(-13.335,-10.915) 8(-12.065,-9.01) 9(-10.795,-10.915) 10(-9.525,-9.01) 11(-8.255,-10.915) 12(-6.985,-9.01) 13(-5.715,-10.915) 14(-4.445,-9.01) 15(-3.175,-10.915) 16(-1.905,-9.01) 17(-0.635,-10.915) 18(0.635,-9.01) 19(1.905,-10.915) 20(3.175,-9.01) 21(4.445,-10.915) 22(5.715,-9.01) 23(6.985,-10.915) 24(8.255,-9.01) 25(9.525,-10.915) 26(10.795,-9.01) 27(12.065,-10.915) 28(13.335,-9.01) 29(14.605,-10.915) 30(15.875,-9.01) 31(17.145,-10.915) 32(18.415,-9.01) 33(19.685,-10.915) 34(20.955,-9.01) 35(-20.955,-7.105) 36(-19.685,-5.2) 37(-18.415,-7.105) 38(-17.145,-5.2) 39(-15.875,-7.105) 40(-14.605,-5.2) 41(-13.335,-7.105) 42(-12.065,-5.2) 43(-10.795,-7.105) 44(-9.525,-5.2) 45(-8.255,-7.105) 46(-6.985,-5.2) 47(-5.715,-7.105) 48(-4.445,-5.2) 49(-3.175,-7.105) 50(-1.905,-5.2) 51(-0.635,-7.105) 52(0.635,-5.2) 53(1.905,-7.105) 54(3.175,-5.2) 55(4.445,-7.105) 56(5.715,-5.2) 57(6.985,-7.105) 58(8.255,-5.2) 59(9.525,-7.105) 60(10.795,-5.2) 61(12.065,-7.105) 62(13.335,-5.2) 63(14.605,-7.105) 64(15.875,-5.2) 65(17.145,-7.105) 66(18.415,-5.2) 67(19.685,-7.105) 68(20.955,-5.2)
Top Overlay:
  lines w0.2: -23.735,0.005 ccw(c-23.735,0.7) -23.04,0.7 -23.04,4.305 cw(c-22.345,4.305) -22.345,5 22.345,5 ; 22.345,5.025 cw(c22.345,4.33) 23.04,4.33 23.04,0.7 ccw(c23.735,0.7) 23.735,0.005 ; -26.61,-12.2 26.61,-12.2 26.61,0 -26.61,0 -26.61,-12.2
  text "1" at -21.205,-14.175 h1.5
  text "33" at 18.435,-14.175 h1.5
  text "36" at -20.935,-4.125 h1.5
  text "68" at 19.705,-4.125 h1.5

## 8-174682-8 [mm] "Connector; D Subminiature 050 Series; 96 Position; Right Angle"
height 7.5
pads (96):
  rect 1.4x1.4 hole 0.8: 1(-29.845,-10.915)
  round 1.4 hole 0.8: 2(-28.575,-9.01) 3(-27.305,-10.915) 4(-26.035,-9.01) 5(-24.765,-10.915) 6(-23.495,-9.01) 7(-22.225,-10.915) 8(-20.955,-9.01) 9(-19.685,-10.915) 10(-18.415,-9.01) 11(-17.145,-10.915) 12(-15.875,-9.01) 13(-14.605,-10.915) 14(-13.335,-9.01) 15(-12.065,-10.915) 16(-10.795,-9.01) 17(-9.525,-10.915) 18(-8.255,-9.01) 19(-6.985,-10.915) 20(-5.715,-9.01) 21(-4.445,-10.915) 22(-3.175,-9.01) 23(-1.905,-10.915) 24(-0.635,-9.01) 25(0.635,-10.915) 26(1.905,-9.01) 27(3.175,-10.915) 28(4.445,-9.01) 29(5.715,-10.915) 30(6.985,-9.01) 31(8.255,-10.915) 32(9.525,-9.01) 33(10.795,-10.915) 34(12.065,-9.01) 35(13.335,-10.915) 36(14.605,-9.01) 37(15.875,-10.915) 38(17.145,-9.01) 39(18.415,-10.915) 40(19.685,-9.01) 41(20.955,-10.915) 42(22.225,-9.01) 43(23.495,-10.915) 44(24.765,-9.01) 45(26.035,-10.915) 46(27.305,-9.01) 47(28.575,-10.915) 48(29.845,-9.01) 49(-29.845,-7.105) 50(-28.575,-5.2) 51(-27.305,-7.105) 52(-26.035,-5.2) 53(-24.765,-7.105) 54(-23.495,-5.2) 55(-22.225,-7.105) 56(-20.955,-5.2) 57(-19.685,-7.105) 58(-18.415,-5.2) 59(-17.145,-7.105) 60(-15.875,-5.2) 61(-14.605,-7.105) 62(-13.335,-5.2) 63(-12.065,-7.105) 64(-10.795,-5.2) 65(-9.525,-7.105) 66(-8.255,-5.2) 67(-6.985,-7.105) 68(-5.715,-5.2) 69(-4.445,-7.105) 70(-3.175,-5.2) 71(-1.905,-7.105) 72(-0.635,-5.2) 73(0.635,-7.105) 74(1.905,-5.2) 75(3.175,-7.105) 76(4.445,-5.2) 77(5.715,-7.105) 78(6.985,-5.2) 79(8.255,-7.105) 80(9.525,-5.2) 81(10.795,-7.105) 82(12.065,-5.2) 83(13.335,-7.105) 84(14.605,-5.2) 85(15.875,-7.105) 86(17.145,-5.2) 87(18.415,-7.105) 88(19.685,-5.2) 89(20.955,-7.105) 90(22.225,-5.2) 91(23.495,-7.105) 92(24.765,-5.2) 93(26.035,-7.105) 94(27.305,-5.2) 95(28.575,-7.105) 96(29.845,-5.2)
Top Overlay:
  lines w0.2: -32.625,0.005 ccw(c-32.625,0.7) -31.93,0.7 -31.93,4.33 cw(c-31.235,4.33) -31.235,5.025 ; -31.235,5 31.235,5 ; 31.235,5.025 cw(c31.235,4.33) 31.93,4.33 31.93,0.7 ccw(c32.625,0.7) 32.625,0.005 ; -35.5,-12.2 -35.5,0 35.5,0 35.5,-12.2 -35.5,-12.2
  text "96" at 28.595,-4.125 h1.5
  text "50" at -29.825,-4.125 h1.5
  text "1" at -30.095,-14.175 h1.5
  text "47" at 27.325,-14.175 h1.5